# EAGLE library part SEEED-XIAO-SAMD21 (library hot-wand)
Check availability <https://pricing.snapeda.com/parts/102010388/seeed%20technology%20limited/view-part?ref=eda>
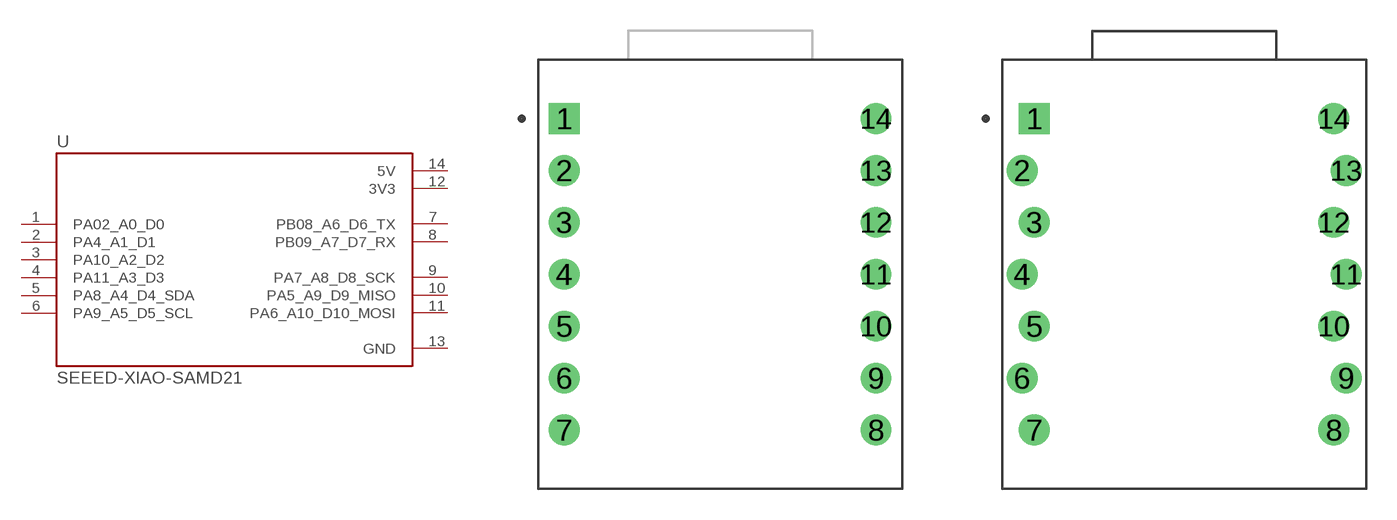
[diagram p10: symbol with the pads of MODULE_102010388; footprints MODULE_102010388, MODULE_102010388_LOCKING]

Designator prefix U

## SEEED-XIAO-SAMD21 (AVAILABILITY: In Stock; CHECK_PRICES: https://www.snapeda.com/parts/102010388/Seeed+Studio/view-part/?ref=eda; DESCRIPTION: ATSAMD21G18 XIAO SAMD21 SAM D ARM® Cortex®-M0 MCU 32-Bit Embedded Evaluation Board; MF: seeed technology limited; MP: 102010388; PACKAGE: None; PRICE: None; PURCHASE-URL: https://www.snapeda.com/api/url_track_click_mouser/?unipart_id=7601083&manufacturer=seeed technology limited&part_name=102010388&search_term=xiao samd21; SNAPEDA_LINK: https://www.snapeda.com/parts/102010388/Seeed+Studio/view-part/?ref=snap)  [MODULE_102010388]
1  PA02_A0_D0
2  PA4_A1_D1
3  PA10_A2_D2
4  PA11_A3_D3
5  PA8_A4_D4_SDA
6  PA9_A5_D5_SCL
7  PB08_A6_D6_TX
8  PB09_A7_D7_RX
9  PA7_A8_D8_SCK
10  PA5_A9_D9_MISO
11  PA6_A10_D10_MOSI
12  3V3  pwr
13  GND  pwr
14  5V  pwr

## SEEED-XIAO-SAMD21-TH-LOCKING (AVAILABILITY: In Stock; CHECK_PRICES: https://www.snapeda.com/parts/102010388/Seeed+Studio/view-part/?ref=eda; DESCRIPTION: ATSAMD21G18 XIAO SAMD21 SAM D ARM® Cortex®-M0 MCU 32-Bit Embedded Evaluation Board; MF: seeed technology limited; MP: 102010388; PACKAGE: None; PRICE: None; PURCHASE-URL: https://www.snapeda.com/api/url_track_click_mouser/?unipart_id=7601083&manufacturer=seeed technology limited&part_name=102010388&search_term=xiao samd21; SNAPEDA_LINK: https://www.snapeda.com/parts/102010388/Seeed+Studio/view-part/?ref=snap)  [MODULE_102010388_LOCKING]
Pads as for MODULE_102010388

## Footprint MODULE_102010388 (pad centres in mm)
drill 1 square: 1 -7.62,7.62
drill 1: 2 -7.62,5.08; 3 -7.62,2.54; 4 -7.62,0; 5 -7.62,-2.54; 6 -7.62,-5.08; 7 -7.62,-7.62; 8 7.62,-7.62; 9 7.62,-5.08; 10 7.62,-2.54; 11 7.62,0; 12 7.62,2.54; 13 7.62,5.08; 14 7.62,7.62

## Footprint MODULE_102010388_LOCKING (pad centres in mm)
drill 1 square: 1 -7.32,7.62
drill 1: 2 -7.92,5.08; 3 -7.32,2.54; 4 -7.92,0; 5 -7.32,-2.54; 6 -7.92,-5.08; 7 -7.32,-7.62; 8 7.32,-7.62; 9 7.92,-5.08; 10 7.32,-2.54; 11 7.92,0; 12 7.32,2.54; 13 7.92,5.08; 14 7.32,7.62